# EAGLE library part MCP3204 (library NBitWonder)
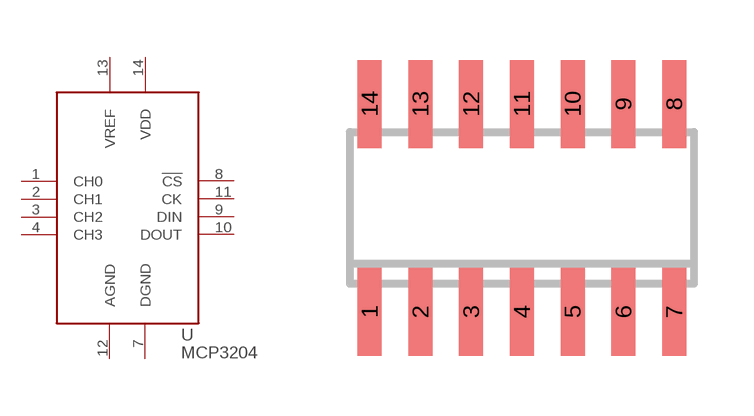
[diagram p13: symbol with the pads of SO14; footprint SO14]

Designator prefix -

## MCP3204  [SO14]
1  CH0  in
2  CH1  in
3  CH2  in
4  CH3  in
7  DGND  pwr
8  !CS  in
9  DIN  in
10  DOUT  out
11  CK  in
12  AGND  pwr
13  VREF  in
14  VDD  pwr

## Footprint SO14 (pad centres in mm)
Small Outline Package 14
smd 0.6 x 2.2: 1 -3.81,-2.6; 2 -2.54,-2.6; 3 -1.27,-2.6; 4 0,-2.6; 5 1.27,-2.6; 6 2.54,-2.6; 7 3.81,-2.6; 8 3.81,2.6; 9 2.54,2.6; 10 1.27,2.6; 11 0,2.6; 12 -1.27,2.6; 13 -2.54,2.6; 14 -3.81,2.6